# Altium schematic symbol library 74XX.SchLib: 3 symbols
Pins are listed as number, name and electrical type; pins without a type are passive.

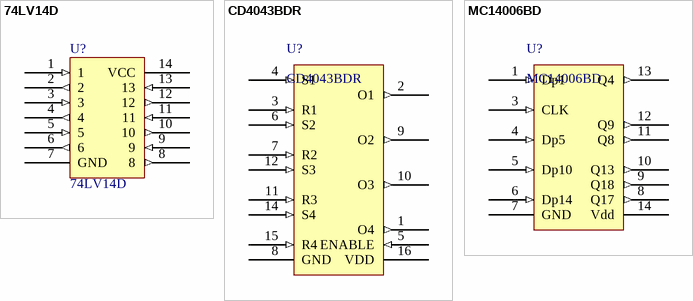
[diagram p0: symbols 74LV14D to MC14006BD]

## 74LV14D
designator U?
footprint SO-G14/G3.3
pins: 1 (in), 2 (out), 3 (in), 4 (out), 5 (in), 6 (out), 7 GND (power), 8 (out), 9 (in), 10 (out), 11 (in), 12 (out), 13 (in), 14 VCC (power)

## CD4043BDR
designator U?
R/S Latches
footprint SOIC127P600-16L (SOIC, 16-Leads, Body 9.9x3.9mm, Pitch 1.27mm, IPC High Density)
pins: 1 O4 (out), 2 O1 (out), 3 R1 (in), 4 S1 (in), 5 ENABLE (in), 6 S2 (in), 7 R2 (in), 8 GND, 9 O2 (out), 10 O3 (out), 11 R3 (in), 12 S3 (in), 14 S4 (in), 15 R4 (in), 16 VDD

## MC14006BD
designator U?
18-Bit Static Shift Register
footprint SOIC127P600-14AL (SOIC, 14-Leads, Body 8.6x3.9mm, Pitch 1.27mm, IPC High Density)
pins: 1 Dp1 (in), 3 CLK (in), 4 Dp5 (in), 5 Dp10 (in), 6 Dp14 (in), 7 GND, 8 Q17 (out), 9 Q18 (out), 10 Q13 (out), 11 Q8 (out), 12 Q9 (out), 13 Q4 (out), 14 Vdd